# Altium schematic symbol library 传感元件.SchLib: 24 symbols
Pins are listed as number, name and electrical type; pins without a type are passive.

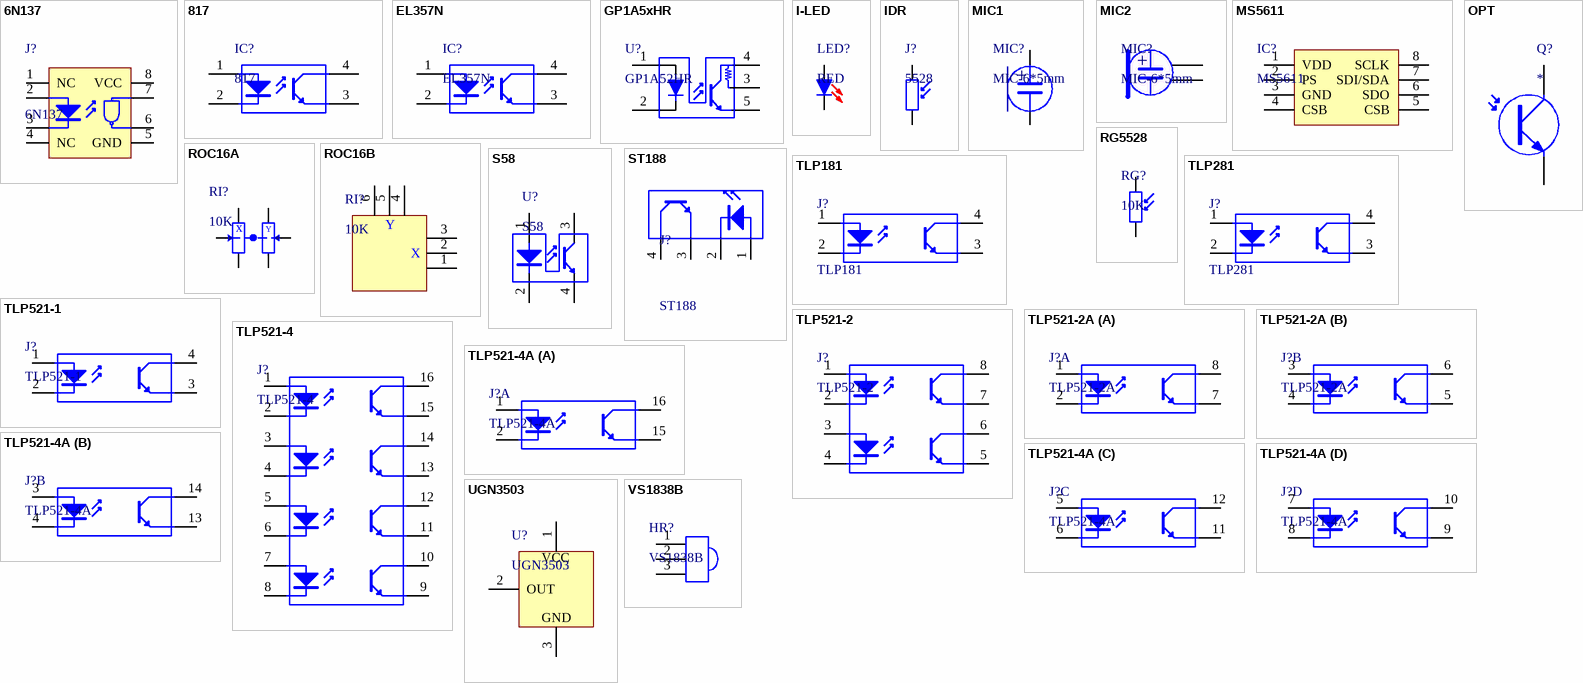
[diagram p0: symbols 6N137 to VS1838B]

## 6N137
designator J?
10M高速集成光耦; 版权归属: 黎明电子style; BOM名称: 10M高速集成光耦; 学习资源: https://lmdzstyle.taobao.com/
footprint DIP8-300 (9.4*7.6*3.8(长宽高）)
footprint DIP8-300_MH (带底座 9.4*7.6*3.8(长宽高）)
footprint SOP8_L (5*6*1.8mm（长宽高）)
footprint SOP8_M (5*6*1.8mm（长宽高）)
footprint SOP8_N (5*6*1.8mm（长宽高）)
pins: 1 NC "Anode", 2 LED+ "Cathode", 3 LED- "Cathode", 4 NC "Cathode", 5 GND "Collector", 6 Vo "Emitter", 7 Ve "Emitter", 8 VCC "Emitter"

## 817
designator IC?
线性光耦; 版权归属: 黎明电子style; BOM名称: 线性光耦; 学习资源: https://lmdzstyle.taobao.com/
footprint DIP4-300 (4.6*7.6*3.8(长宽高）)
pins: 1 A "Anode", 2 K "Cathode", 3 E "Emitter", 4 C "Collector"

## EL357N
designator IC?
线性光耦; 版权归属: 黎明电子style; BOM名称: 线性光耦; 学习资源: https://lmdzstyle.taobao.com/
footprint DIP4-300 (4.6*7.6*3.8(长宽高）)
footprint SOP4_N (4.4*6.8*2.1mm（长宽高）)
footprint SOP4_L (4.4*6.8*2.1mm（长宽高）)
footprint SOP4_M (4.4*6.8*2.1mm（长宽高）)
pins: 1 A "Anode", 2 K "Cathode", 3 E "Emitter", 4 C "Collector"

## GP1A5xHR
designator U?, comment GP1A52HR
槽间光电开关; 版权归属: 黎明电子style; BOM名称: 槽间光电开关; 学习资源: https://lmdzstyle.taobao.com/
footprint GP1A52HR (长: 12.5mm,宽:5mm,高:10mm,槽宽:3mm)
footprint GP1A53HR (长: 14mm,宽:5.2mm,高:10mm,槽宽:5mm)
pins: 1 A, 2 K, 3, 4, 5

## I-LED
designator LED?, comment RED
红外二极管; 版权归属: 黎明电子style; BOM名称: 红外二极管; 学习资源: https://lmdzstyle.taobao.com/
footprint I-LED-3MM
footprint I-LED-5MM
pins: 1 A, 2 K

## IDR
designator J?, comment 5528
光敏电阻; 版权归属: 黎明电子style; BOM名称: 光敏电阻; 学习资源: https://lmdzstyle.taobao.com/
footprint RG5528 (光敏电阻 脚距：3mm)
pins: 1, 2

## MIC1
designator MIC?, comment MIC-6*5mm
电容麦克风; 版权归属: 黎明电子style; BOM名称: 电容麦克风; 学习资源: https://lmdzstyle.taobao.com/
footprint MIC-6*5.5mm (咪咪头)
footprint MIC-4.5*1.9 (咪咪头)
pins: 1, 2
text: +

## MIC2
designator MIC?, comment MIC-6*5mm
电容麦克风; 版权归属: 黎明电子style; BOM名称: 电容麦克风; 学习资源: https://lmdzstyle.taobao.com/
footprint MIC-4.5*1.9 (咪咪头)
footprint MIC-6*5.5mm (咪咪头)
pins: 1, 2
text: +

## MS5611
designator IC?
气压传感器; 版权归属: 黎明电子style; BOM名称: 气压传感器; 学习资源: https://lmdzstyle.taobao.com/
footprint MS5611 (气压传感芯片)
pins: 1 VDD, 2 PS, 3 GND, 4 CSB, 5 CSB, 6 SDO, 7 SDI/SDA, 8 SCLK

## OPT
designator Q?
红外接收管; 版权归属: 黎明电子style; BOM名称: 红外接收管; 学习资源: https://lmdzstyle.taobao.com/
footprint OPT-3MM (3mm红外接收管)
footprint OPT-5MM (5mm红外接收管)
pins: 1, 2

## RG5528
designator RG?, comment 10K
光敏电阻; 版权归属: 黎明电子style; BOM名称: 光敏电阻; 学习资源: https://lmdzstyle.taobao.com/
footprint RG5528 (光敏电阻 脚距：3mm)
pins: 1, 2

## ROC16A
designator RI?, comment 10K
摇杆电位器; 版权归属: 黎明电子style; BOM名称: 摇杆电位器; 学习资源: https://lmdzstyle.taobao.com/
footprint ROC16 (摇杆电位器，长16mm，宽16mm，高12.2mm)
pins: 1, 2, 3, 4, 5, 6
text: x; Y

## ROC16B
designator RI?, comment 10K
摇杆电位器; 版权归属: 黎明电子style; BOM名称: 摇杆电位器; 学习资源: https://lmdzstyle.taobao.com/
footprint ROC16 (摇杆电位器，长16mm，宽16mm，高12.2mm)
pins: 1, 2, 3, 4, 5, 6
text: Y; X

## S58
designator U?
槽间光耦; 版权归属: 黎明电子style; BOM名称: 槽间光耦; 学习资源: https://lmdzstyle.taobao.com/
footprint S58 (对射型光耦)
pins: 1 A, 2 K, 3 C, 4 E

## ST188
designator J?
反射型光耦; 版权归属: 黎明电子style; BOM名称: 反射型光耦; 学习资源: https://lmdzstyle.taobao.com/
footprint ST188 (反射型光耦)
pins: 1 A "Anode", 2 K "Cathode", 3 E "Emitter", 4 C "Collector"

## TLP181
designator J?
光耦; 版权归属: 黎明电子style; BOM名称: 光耦; 学习资源: https://lmdzstyle.taobao.com/
footprint SOP4_N (4.4*6.8*2.1mm（长宽高）)
footprint SOP4_L (4.4*6.8*2.1mm（长宽高）)
footprint SOP4_M (4.4*6.8*2.1mm（长宽高）)
footprint DIP4-300 (Footprint not found)
pins: 1 A "Anode", 2 K "Cathode", 3 E "Emitter", 4 C "Collector"

## TLP281
designator J?
光耦; 版权归属: 黎明电子style; BOM名称: 光耦; 学习资源: https://lmdzstyle.taobao.com/
footprint SOP4_N (4.4*6.8*2.1mm（长宽高）)
footprint SOP4_L (4.4*6.8*2.1mm（长宽高）)
footprint SOP4_M (4.4*6.8*2.1mm（长宽高）)
footprint DIP4-300 (Footprint not found)
pins: 1 A "Anode", 2 K "Cathode", 3 E "Emitter", 4 C "Collector"

## TLP521-1
designator J?
1路开关光耦; 版权归属: 黎明电子style; BOM名称: 1路开关光耦; 学习资源: https://lmdzstyle.taobao.com/
footprint DIP4-300 (4.6*7.6*3.8(长宽高）)
footprint SOP4-W2.54_N (6.5*4.58*3.5mm（长宽高）)
footprint SOP4-W2.54_L (6.5*4.58*3.5mm（长宽高）)
footprint SOP4-W2.54_M (6.5*4.58*3.5mm（长宽高）)
pins: 1 A "Anode", 2 K "Cathode", 3 E "Emitter", 4 C "Collector"

## TLP521-2
designator J?
2路开关光耦; 版权归属: 黎明电子style; BOM名称: 2路开关光耦; 学习资源: www.ooocke.com
footprint DIP8-300 (9.4*7.6*3.8(长宽高）)
footprint SOP8-W2.54_N (6.5*9.66*3.5mm（长宽高）)
footprint SOP8-W2.54_L (6.5*9.66*3.5mm（长宽高）)
footprint SOP8-W2.54_M (6.5*9.66*3.5mm（长宽高）)
pins: 1 1A "Anode", 2 1K "Cathode", 3 2A "Anode", 4 2K "Cathode", 5 2E "Emitter", 6 2C "Collector", 7 1E "Emitter", 8 1C "Collector"

## TLP521-2A
designator J?
2路开关光耦; 版权归属: 黎明电子style; BOM名称: 2路开关光耦; 学习资源: https://lmdzstyle.taobao.com/
footprint DIP8-300 (9.4*7.6*3.8(长宽高）)
footprint SOP8-W2.54_N (6.5*9.66*3.5mm（长宽高）)
footprint SOP8-W2.54_L (6.5*9.66*3.5mm（长宽高）)
footprint SOP8-W2.54_M (6.5*9.66*3.5mm（长宽高）)
part A pins: 1 1A "Anode", 2 1K "Cathode", 7 1E "Emitter", 8 1C "Collector"
part B pins: 3 2A "Anode", 4 2K "Cathode", 5 2E "Emitter", 6 2C "Collector"

## TLP521-4
designator J?
4路开关光耦; 版权归属: 黎明电子style; BOM名称: 4路开关光耦; 学习资源: https://lmdzstyle.taobao.com/
footprint DIP16-300 (19.3*7.6*3.8(长宽高）)
footprint SOP16-W2.54_N (6.5*19.82*3.5mm（长宽高）)
footprint SOP16-W2.54_L (6.5*19.82*3.5mm（长宽高）)
footprint SOP16-W2.54_M (6.5*19.82*3.5mm（长宽高）)
pins: 1 1A "Anode", 2 1K "Cathode", 3 2A "Anode", 4 2K "Cathode", 5 3A "Anode", 6 3K "Cathode", 7 4A "Anode", 8 4K "Cathode", 9 4E "Emitter", 10 4C "Collector", 11 3E "Emitter", 12 3C "Collector", 13 2E "Emitter", 14 2C "Collector", 15 1E "Emitter", 16 1C "Collector"

## TLP521-4A
designator J?
4路开关光耦; 版权归属: 黎明电子style; BOM名称: 4路开关光耦; 学习资源: https://lmdzstyle.taobao.com/
footprint DIP16-300 (19.3*7.6*3.8(长宽高）)
footprint SOP16-W2.54_N (6.5*19.82*3.5mm（长宽高）)
footprint SOP16-W2.54_L (6.5*19.82*3.5mm（长宽高）)
footprint SOP16-W2.54_M (6.5*19.82*3.5mm（长宽高）)
part A pins: 1 1A "Anode", 2 1K "Cathode", 15 1E "Emitter", 16 1C "Collector"
part B pins: 3 2A "Anode", 4 2K "Cathode", 13 2E "Emitter", 14 2C "Collector"
part C pins: 5 3A "Anode", 6 3K "Cathode", 11 3E "Emitter", 12 3C "Collector"
part D pins: 7 4A "Anode", 8 4K "Cathode", 9 4E "Emitter", 10 4C "Collector"

## UGN3503
designator U?
线性霍尔传感器; 版权归属: 黎明电子style; BOM名称: 线性霍尔传感器; 学习资源: https://lmdzstyle.taobao.com/
footprint VS1838B-A (一体红外接收头)
footprint VS1838B-B (一体红外接收头)
footprint VS1838B-B_H (卧式一体红外接收头)
footprint VS1838B-A_H (卧式一体红外接收头)
pins: 1 VCC, 2 OUT, 3 GND

## VS1838B
designator HR?
红外接收头; 版权归属: 黎明电子style; BOM名称: 红外接收头; 学习资源: https://lmdzstyle.taobao.com/
footprint VS1838B-A (一体红外接收头)
footprint VS1838B-B (一体红外接收头)
footprint VS1838B-B_H (卧式一体红外接收头)
footprint VS1838B-A_H (卧式一体红外接收头)
pins: 1 A "Anode", 2 K "Cathode", 3 E "Emitter"